# EAGLE library part TSW-105-08-G-D-RA (library C3-Connector)
CONN HEADER, 2.54MM, THT, R/A, 10WAY
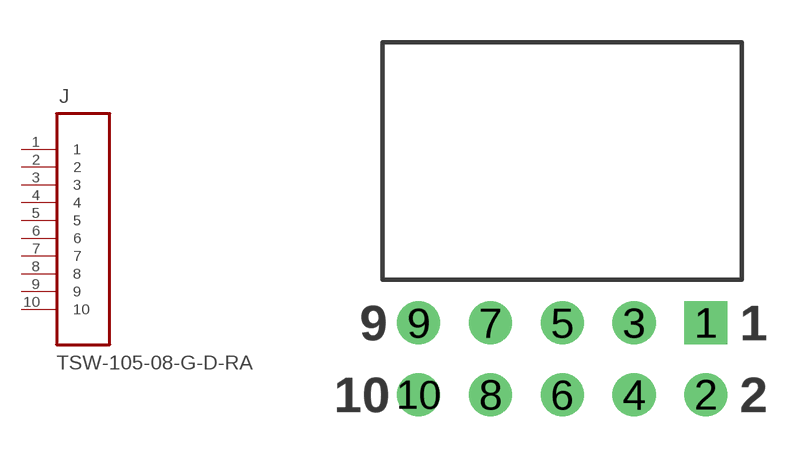
[diagram p4: symbol with the pads of SAMTEC_TSW-105-08-G-D-RA; footprint SAMTEC_TSW-105-08-G-D-RA]

Designator prefix J

## TSW-105-08-G-D-RA (MPN: TSW-105-08-G-D-RA; OC_FARNELL: 2032720; OC_NEWARK: 12P1461; PACKAGE: HEADER, 2.54MM, THT, R/A, 10WAY; SUPPLIER: Samtec)  [SAMTEC_TSW-105-08-G-D-RA]
1  1  pas
2  2  pas
3  3  pas
4  4  pas
5  5  pas
6  6  pas
7  7  pas
8  8  pas
9  9  pas
10  10  pas

## Footprint SAMTEC_TSW-105-08-G-D-RA (pad centres in mm)
drill 1.016 square: 1 10.16,2.54
drill 1.016: 2 10.16,0; 3 7.62,2.54; 4 7.62,0; 5 5.08,2.54; 6 5.08,0; 7 2.54,2.54; 8 2.54,0; 9 0,2.54; 10 0,0